# Altium integrated library CD4081BM.IntLib: 1 symbol
Pins are listed as number, name and electrical type; pins without a type are passive.

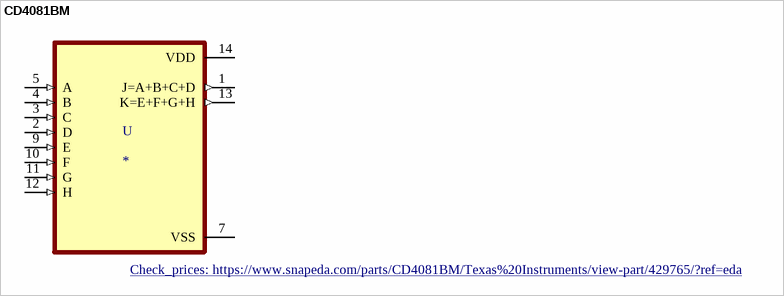
[diagram p0: symbol CD4081BM]

## CD4081BM
designator U
CMOS Quad 2-Input AND Gate 14-SOIC -55 to 125; MP: CD4081BM; MF: Texas Instruments; Texas_Instruments-Purchase-URL: https://snapeda.com/shop?store=Texas+Instruments&id=429765; Package: SOIC-14 Texas Instruments; Availability: Good; Value: *; Price: None; Mouser-Purchase-URL: https://snapeda.com/shop?store=Mouser&id=429765; DigiKey-Purchase-URL: https://snapeda.com/shop?store=DigiKey&id=429765; SnapEDA_Link: https://www.snapeda.com/parts/CD4081BM/Texas%20Instruments/view-part/429765/?ref=snap; Check_prices: https://www.snapeda.com/parts/CD4081BM/Texas%20Instruments/view-part/429765/?ref=eda
footprint SOIC127P600X175-14N
pins: 1 J=A+B+C+D (out), 2 D (in), 3 C (in), 4 B (in), 5 A (in), 7 VSS (power), 9 E (in), 10 F (in), 11 G (in), 12 H (in), 13 K=E+F+G+H (out), 14 VDD (power)